# EAGLE library part HOLTEK-HT9170X (library Pygmy)
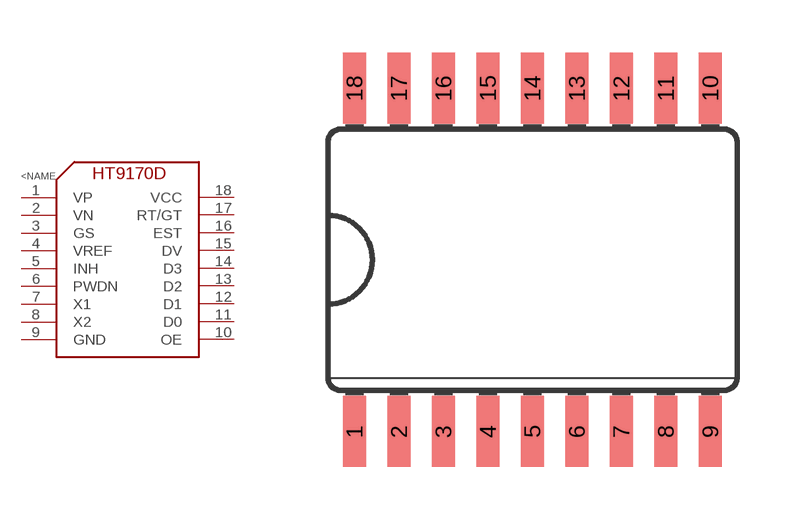
[diagram p21: symbol with the pads of SO18L; footprint SO18L]

Designator prefix -

## HOLTEK-HT9170X  [SO18L]
1  VP
2  VN
3  GS
4  VREF
5  INH
6  PWDN
7  X1
8  X2
9  GND
10  OE
11  D0
12  D1
13  D2
14  D3
15  DV
16  EST
17  RT/GT
18  VCC

## Footprint SO18L (pad centres in mm)
Small Outline Package
smd 0.66 x 2.032: 1 -5.08,-4.902; 2 -3.81,-4.902; 3 -2.54,-4.902; 4 -1.27,-4.902; 5 0,-4.902; 6 1.27,-4.902; 7 2.54,-4.902; 8 3.81,-4.902; 9 5.08,-4.902; 10 5.08,4.902; 11 3.81,4.902; 12 2.54,4.902; 13 1.27,4.902; 14 0,4.902; 15 -1.27,4.902; 16 -2.54,4.902; 17 -3.81,4.902; 18 -5.08,4.902